# Altium footprint library ppm_header.PcbLib: 15 footprints
Each footprint in its own frame and in the unit in brackets; x right, y up, seen from the top. Pads: shape width x height; smd on the part's side, far side on the other; paste and mask are expansions set on the pad; w line width, h text height; cw(c..) or ccw(c..) is an arc to the next point about the centre after c.
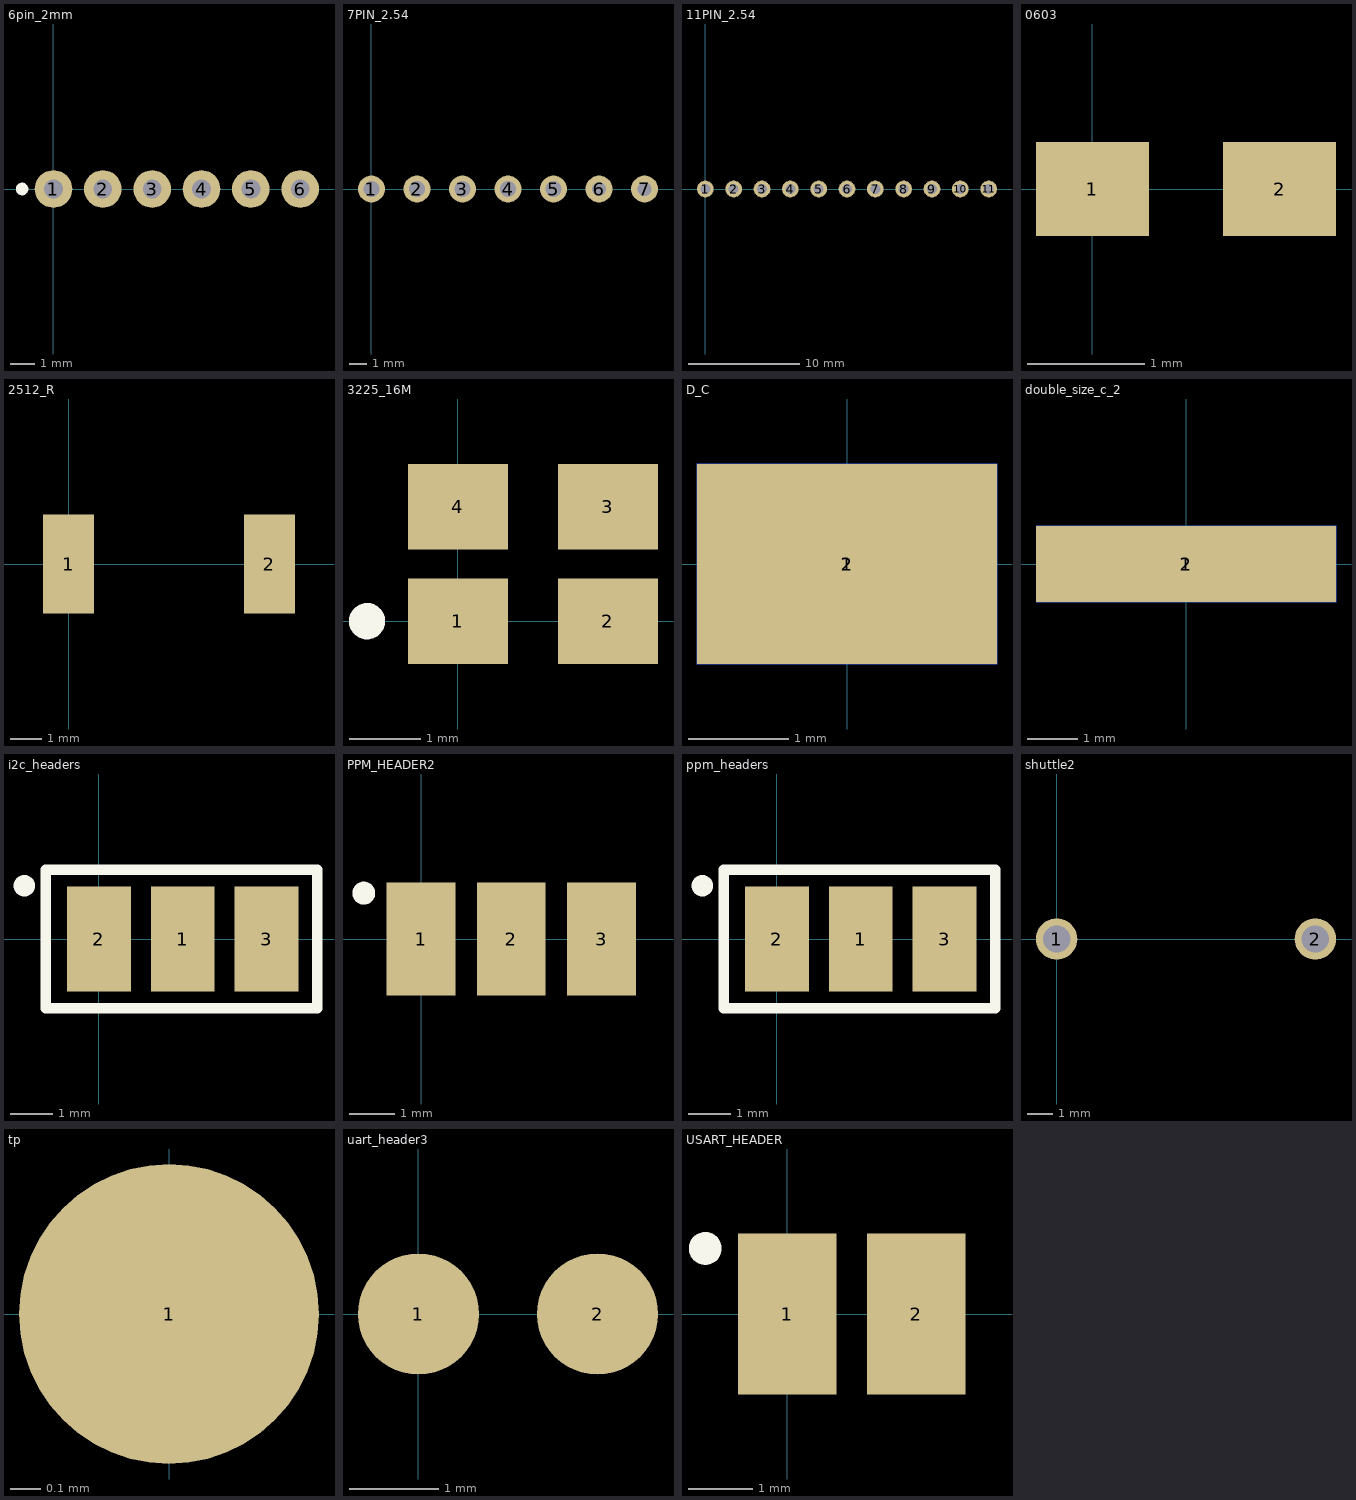
[diagram p0: the footprints below, top view; thin cyan lines are the x and y axes]

## 6pin_2mm [mil]
pads (6):
  round 60 hole 30: 1(0,0) 2(78.74,0) 3(157.48,0) 4(236.22,0) 5(314.96,0) 6(393.7,0)
Top Overlay:
  circle w10: c-50,0 r5

## 7PIN_2.54 [mm]
pads (7):
  round 1.5 hole 0.9: 1(0,0) 2(2.54,0) 3(5.08,0) 4(7.62,0) 5(10.16,0)
  round 1.5 hole 0.762: 6(12.7,0) 7(15.24,0)

## 11PIN_2.54 [mm]
pads (11):
  round 1.5 hole 0.9: 1(0,0) 2(2.54,0) 3(5.08,0) 4(7.62,0) 5(10.16,0) 6(12.7,0) 7(15.24,0) 8(17.78,0) 9(20.32,0) 10(22.86,0) 11(25.4,0)

## 0603 [mm]
pads (2):
  rect 0.965x0.8 smd: 1(0,0) 2(1.6,0)

## 2512_R [mm]
pads (2):
  rect 1.65x3.2 smd: 1(0,0) 2(6.48,0)

## 3225_16M [mm]
pads (4):
  rect 1.4x1.2 smd: 1(0,0) 2(2.1,0) 3(2.1,1.6) 4(0,1.6)
Top Overlay:
  circle w0.254: c-1.27,0 r0.127

## D_C [mm]
pads (2):
  rect 3x2 smd: 1(0,0)
  rect 3x2 smd far side: 2(0,0)

## double_size_c_2 [mm]
pads (2):
  rect 6x1.524 smd: 1(0,0)
  rect 6x1.524 smd far side: 2(0,0)

## i2c_headers [mm]
pads (3):
  rect 1.524x2.5 smd: 1(2,0) 2(0,0) 3(4,0)
Top Overlay:
  circle w0.254: c-1.778,1.27 r0.127
  lines w0.254: -1.27,-1.651 5.207,-1.651 5.207,1.651 -1.27,1.651 -1.27,-1.651

## PPM_HEADER2 [mm]
pads (3):
  rect 1.524x2.5 smd: 1(0,0) 2(2,0) 3(4,0)
Top Overlay:
  circle w0.254: c-1.27,1.016 r0.127

## ppm_headers [mm]
pads (3):
  rect 1.524x2.5 smd: 1(2,0) 2(0,0) 3(4,0)
Top Overlay:
  circle w0.254: c-1.778,1.27 r0.127
  lines w0.254: -1.27,-1.651 -1.27,1.651 -0.635,1.651 5.207,1.651 5.207,-1.651 -1.27,-1.651

## shuttle2 [mm]
pads (2):
  round 1.6 hole 1.05: 1(0,0) 2(10,0)

## tp [mm]
pads (1):
  round 1 smd: 1(0,0)

## uart_header3 [mm]
pads (2):
  round 1.35 smd: 1(0,0) 2(2,0)

## USART_HEADER [mm]
pads (2):
  rect 1.524x2.5 smd: 1(0,0) 2(2,0)
Top Overlay:
  circle w0.254: c-1.27,1.016 r0.127